# Altium integrated library Microchip Thermal Management.IntLib: 361 symbols (part 6 of 9)
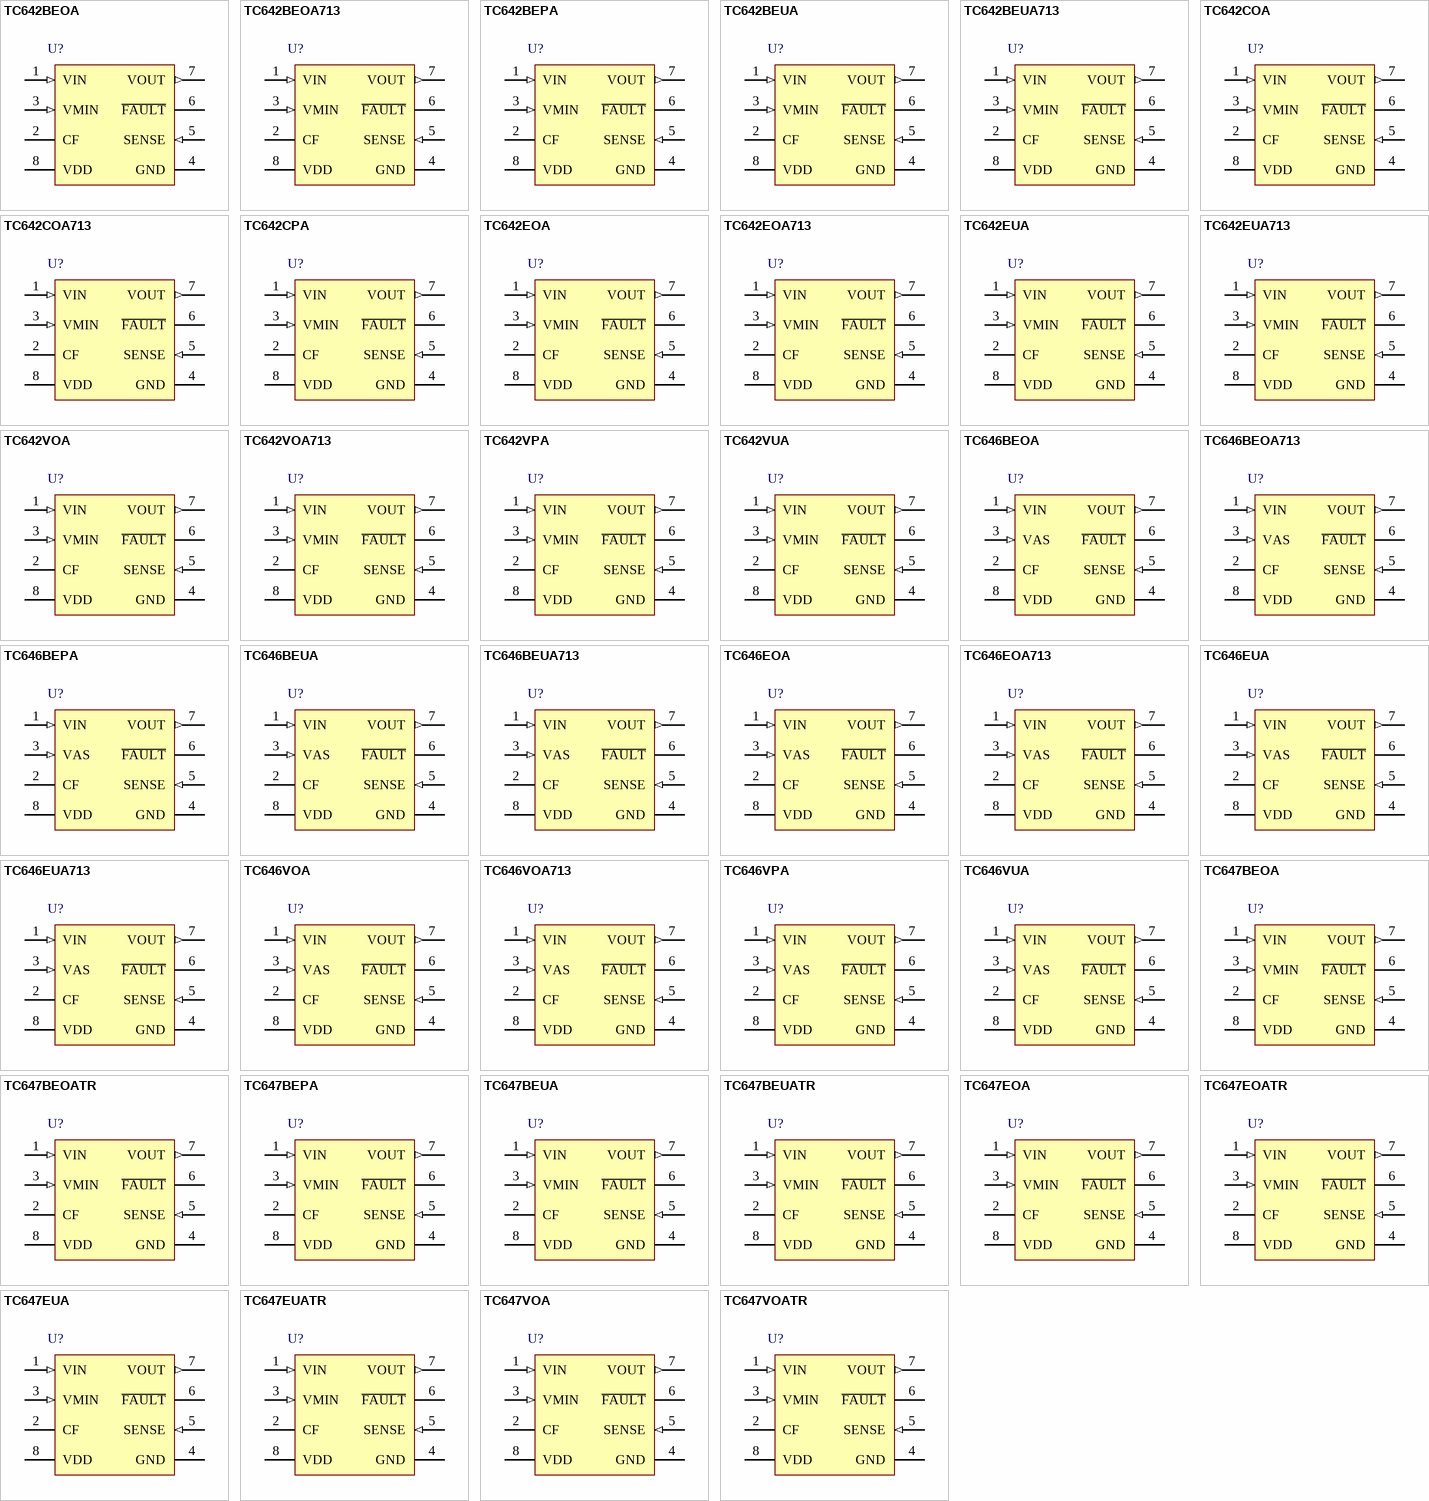
[diagram p14: symbols TC642BEOA to TC647VOATR]

## TC642EUA713
designator U?
PWM Fan Speed Controller with FanSense Technology, 8-Pin MSOP, Industrial Temperature, Tape and Reel; Manufacturer: Microchip; PartNumber: TC642EUA713; DatasheetVersion: revC, Oct-2002; PackageVersion: revBB, Aug-2009; PackageReference: MSOP-UA8; PackageDescription: 8-Lead Plastic Micro Small Outline Package (UA) [MSOP]; Supplier 1: Digi-Key; Supplier Part Number 1: TC642EUA713-ND; Mounting Technology: Surface Mount; Code_JEDEC: MO-187-AA; ComponentLink1Description: Manufacturer URL; ComponentLink1URL: http://www.microchip.com/; ComponentLink2Description: Datasheet; ComponentLink2URL: http://ww1.microchip.com/downloads/en/DeviceDoc/21444c.pdf; ComponentLink3Description: Package Specification; ComponentLink3URL: http://www.microchip.com/stellent/groups/techpub_sg/documents/packagingspec/en012702.pdf
footprint MSOP-UA8_N (TSOP, 8-Leads, Body 3x3mm, Pitch 0.65mm, IPC Medium Density)
footprint MSOP-UA8_L (TSOP, 8-Leads, Body 3x3mm, Pitch 0.65mm, IPC High Density)
footprint MSOP-UA8_M (TSOP, 8-Leads, Body 3x3mm, Pitch 0.65mm, IPC Low Density)
pins: 1 VIN (in), 2 CF, 3 VMIN (in), 4 GND (power), 5 SENSE (in), 6 ~{FAULT} (oc), 7 VOUT (out), 8 VDD (power)

## TC642VOA
designator U?
PWM Fan Speed Controller with FanSense Technology, 8-Pin SOIC; Manufacturer: Microchip; PartNumber: TC642VOA; DatasheetVersion: revC, Oct-2002; PackageVersion: revBB, Aug-2009; PackageReference: SOIC-OA8; PackageDescription: 8-Lead Plastic Small Outline (OA) - Narrow, 3.90mm Body [SOIC]; Supplier 1: Digi-Key; Supplier Part Number 1: TC642VOA-ND; Mounting Technology: Surface Mount; Code_IPC: SOIC127P600-8; ComponentLink1Description: Manufacturer URL; ComponentLink1URL: http://www.microchip.com/; ComponentLink2Description: Datasheet; ComponentLink2URL: http://ww1.microchip.com/downloads/en/DeviceDoc/21444c.pdf; ComponentLink3Description: Package Specification; ComponentLink3URL: http://www.microchip.com/stellent/groups/techpub_sg/documents/packagingspec/en012702.pdf
footprint SOIC-OA8_N (SOIC, 8-Leads, Body 4.9x3.9mm, Pitch 1.27mm, IPC Medium Density)
footprint SOIC-OA8_L (SOIC, 8-Leads, Body 4.9x3.9mm, Pitch 1.27mm, IPC High Density)
footprint SOIC-OA8_M (SOIC, 8-Leads, Body 4.9x3.9mm, Pitch 1.27mm, IPC Low Density)
pins: 1 VIN (in), 2 CF, 3 VMIN (in), 4 GND (power), 5 SENSE (in), 6 ~{FAULT} (oc), 7 VOUT (out), 8 VDD (power)

## TC642VOA713
designator U?
PWM Fan Speed Controller with FanSense Technology, 8-Pin SOIC, Commercial Temperature, Tape and Reel; Manufacturer: Microchip; PartNumber: TC642VOA713; DatasheetVersion: revC, Oct-2002; PackageVersion: revBB, Aug-2009; PackageReference: SOIC-OA8; PackageDescription: 8-Lead Plastic Small Outline (OA) - Narrow, 3.90mm Body [SOIC]; Supplier 1: Digi-Key; Supplier Part Number 1: TC642VOA713-ND; Mounting Technology: Surface Mount; Code_IPC: SOIC127P600-8; ComponentLink1Description: Manufacturer URL; ComponentLink1URL: http://www.microchip.com/; ComponentLink2Description: Datasheet; ComponentLink2URL: http://ww1.microchip.com/downloads/en/DeviceDoc/21444c.pdf; ComponentLink3Description: Package Specification; ComponentLink3URL: http://www.microchip.com/stellent/groups/techpub_sg/documents/packagingspec/en012702.pdf
footprint SOIC-OA8_N (SOIC, 8-Leads, Body 4.9x3.9mm, Pitch 1.27mm, IPC Medium Density)
footprint SOIC-OA8_L (SOIC, 8-Leads, Body 4.9x3.9mm, Pitch 1.27mm, IPC High Density)
footprint SOIC-OA8_M (SOIC, 8-Leads, Body 4.9x3.9mm, Pitch 1.27mm, IPC Low Density)
pins: 1 VIN (in), 2 CF, 3 VMIN (in), 4 GND (power), 5 SENSE (in), 6 ~{FAULT} (oc), 7 VOUT (out), 8 VDD (power)

## TC642VPA
designator U?
PWM Fan Speed Controller with FanSense Technology, 8-Pin PDIP; Manufacturer: Microchip; PartNumber: TC642VPA; DatasheetVersion: revC, Oct-2002; PackageVersion: revBB, Aug-2009; PackageReference: PDIP300-PA8; PackageDescription: 8-Lead Plastic Dual In-Line (PA) - 300 mil Body [PDIP]; Supplier 1: Digi-Key; Supplier Part Number 1: TC642VPA-ND; Mounting Technology: Through Hole; Code_JEDEC: MS-001-BA; ComponentLink1Description: Manufacturer URL; ComponentLink1URL: http://www.microchip.com/; ComponentLink2Description: Datasheet; ComponentLink2URL: http://ww1.microchip.com/downloads/en/DeviceDoc/21444c.pdf; ComponentLink3Description: Package Specification; ComponentLink3URL: http://www.microchip.com/stellent/groups/techpub_sg/documents/packagingspec/en012702.pdf
footprint PDIP300-PA8 (DIP, 8-Leads, Row Spacing 7.62mm, Pitch 2.54mm, Body 9.5x6.6mm)
pins: 1 VIN (in), 2 CF, 3 VMIN (in), 4 GND (power), 5 SENSE (in), 6 ~{FAULT} (oc), 7 VOUT (out), 8 VDD (power)

## TC642VUA
designator U?
PWM Fan Speed Controller with FanSense Technology, 8-Pin MSOP; Manufacturer: Microchip; PartNumber: TC642VUA; DatasheetVersion: revC, Oct-2002; PackageVersion: revBB, Aug-2009; PackageReference: MSOP-UA8; PackageDescription: 8-Lead Plastic Micro Small Outline Package (UA) [MSOP]; Supplier 1: Digi-Key; Supplier Part Number 1: TC642VUA-ND; Mounting Technology: Surface Mount; Code_JEDEC: MO-187-AA; ComponentLink1Description: Manufacturer URL; ComponentLink1URL: http://www.microchip.com/; ComponentLink2Description: Datasheet; ComponentLink2URL: http://ww1.microchip.com/downloads/en/DeviceDoc/21444c.pdf; ComponentLink3Description: Package Specification; ComponentLink3URL: http://www.microchip.com/stellent/groups/techpub_sg/documents/packagingspec/en012702.pdf
footprint MSOP-UA8_N (TSOP, 8-Leads, Body 3x3mm, Pitch 0.65mm, IPC Medium Density)
footprint MSOP-UA8_L (TSOP, 8-Leads, Body 3x3mm, Pitch 0.65mm, IPC High Density)
footprint MSOP-UA8_M (TSOP, 8-Leads, Body 3x3mm, Pitch 0.65mm, IPC Low Density)
pins: 1 VIN (in), 2 CF, 3 VMIN (in), 4 GND (power), 5 SENSE (in), 6 ~{FAULT} (oc), 7 VOUT (out), 8 VDD (power)

## TC646BEOA
designator U?
PWM Fan Speed Controller with Auto-Shutdown, Fan Restart and FanSense Technology for Fault Detection, 8-Pin SOIC, Industrial Temperature; Manufacturer: Microchip; PartNumber: TC646BEOA; DatasheetVersion: revB, May-2003; PackageVersion: revBB, Aug-2009; PackageReference: SOIC-OA8; PackageDescription: 8-Lead Plastic Small Outline (OA) - Narrow, 3.90mm Body [SOIC]; Supplier 1: Digi-Key; Supplier Part Number 1: TC646BEOA-ND; Mounting Technology: Surface Mount; Code_IPC: SOIC127P600-8; ComponentLink1Description: Manufacturer URL; ComponentLink1URL: http://www.microchip.com/; ComponentLink2Description: Datasheet; ComponentLink2URL: http://ww1.microchip.com/downloads/en/DeviceDoc/21755b.pdf; ComponentLink3Description: Package Specification; ComponentLink3URL: http://www.microchip.com/stellent/groups/techpub_sg/documents/packagingspec/en012702.pdf
footprint SOIC-OA8_N (SOIC, 8-Leads, Body 4.9x3.9mm, Pitch 1.27mm, IPC Medium Density)
footprint SOIC-OA8_L (SOIC, 8-Leads, Body 4.9x3.9mm, Pitch 1.27mm, IPC High Density)
footprint SOIC-OA8_M (SOIC, 8-Leads, Body 4.9x3.9mm, Pitch 1.27mm, IPC Low Density)
pins: 1 VIN (in), 2 CF, 3 VAS (in), 4 GND (power), 5 SENSE (in), 6 ~{FAULT} (oc), 7 VOUT (out), 8 VDD (power)

## TC646BEOA713
designator U?
PWM Fan Speed Controller with Auto-Shutdown, Fan Restart and FanSense Technology for Fault Detection, 8-Pin SOIC, Industrial Temperature, Tape and Reel; Manufacturer: Microchip; PartNumber: TC646BEOA713; DatasheetVersion: revB, May-2003; PackageVersion: revBB, Aug-2009; PackageReference: SOIC-OA8; PackageDescription: 8-Lead Plastic Small Outline (OA) - Narrow, 3.90mm Body [SOIC]; Supplier 1: Digi-Key; Supplier Part Number 1: TC646BEOA713-ND; Mounting Technology: Surface Mount; Code_IPC: SOIC127P600-8; ComponentLink1Description: Manufacturer URL; ComponentLink1URL: http://www.microchip.com/; ComponentLink2Description: Datasheet; ComponentLink2URL: http://ww1.microchip.com/downloads/en/DeviceDoc/21755b.pdf; ComponentLink3Description: Package Specification; ComponentLink3URL: http://www.microchip.com/stellent/groups/techpub_sg/documents/packagingspec/en012702.pdf
footprint SOIC-OA8_N (SOIC, 8-Leads, Body 4.9x3.9mm, Pitch 1.27mm, IPC Medium Density)
footprint SOIC-OA8_L (SOIC, 8-Leads, Body 4.9x3.9mm, Pitch 1.27mm, IPC High Density)
footprint SOIC-OA8_M (SOIC, 8-Leads, Body 4.9x3.9mm, Pitch 1.27mm, IPC Low Density)
pins: 1 VIN (in), 2 CF, 3 VAS (in), 4 GND (power), 5 SENSE (in), 6 ~{FAULT} (oc), 7 VOUT (out), 8 VDD (power)

## TC646BEPA
designator U?
PWM Fan Speed Controller with Auto-Shutdown, Fan Restart and FanSense Technology for Fault Detection, 8-Pin PDIP, Industrial Temperature; Manufacturer: Microchip; PartNumber: TC646BEPA; DatasheetVersion: revB, May-2003; PackageVersion: revBB, Aug-2009; PackageReference: PDIP300-PA8; PackageDescription: 8-Lead Plastic Dual In-Line (PA) - 300 mil Body [PDIP]; Supplier 1: Digi-Key; Supplier Part Number 1: TC646BEPA-ND; Mounting Technology: Through Hole; Code_JEDEC: MS-001-BA; ComponentLink1Description: Manufacturer URL; ComponentLink1URL: http://www.microchip.com/; ComponentLink2Description: Datasheet; ComponentLink2URL: http://ww1.microchip.com/downloads/en/DeviceDoc/21755b.pdf; ComponentLink3Description: Package Specification; ComponentLink3URL: http://www.microchip.com/stellent/groups/techpub_sg/documents/packagingspec/en012702.pdf
footprint PDIP300-PA8 (DIP, 8-Leads, Row Spacing 7.62mm, Pitch 2.54mm, Body 9.5x6.6mm)
pins: 1 VIN (in), 2 CF, 3 VAS (in), 4 GND (power), 5 SENSE (in), 6 ~{FAULT} (oc), 7 VOUT (out), 8 VDD (power)

## TC646BEUA
designator U?
PWM Fan Speed Controller with Auto-Shutdown, Fan Restart and FanSense Technology for Fault Detection, 8-Pin MSOP, Industrial Temperature; Manufacturer: Microchip; PartNumber: TC646BEUA; DatasheetVersion: revB, May-2003; PackageVersion: revBB, Aug-2009; PackageReference: MSOP-UA8; PackageDescription: 8-Lead Plastic Micro Small Outline Package (UA) [MSOP]; Supplier 1: Digi-Key; Supplier Part Number 1: TC646BEUA-ND; Mounting Technology: Surface Mount; Code_JEDEC: MO-187-AA; ComponentLink1Description: Manufacturer URL; ComponentLink1URL: http://www.microchip.com/; ComponentLink2Description: Datasheet; ComponentLink2URL: http://ww1.microchip.com/downloads/en/DeviceDoc/21755b.pdf; ComponentLink3Description: Package Specification; ComponentLink3URL: http://www.microchip.com/stellent/groups/techpub_sg/documents/packagingspec/en012702.pdf
footprint MSOP-UA8_N (TSOP, 8-Leads, Body 3x3mm, Pitch 0.65mm, IPC Medium Density)
footprint MSOP-UA8_L (TSOP, 8-Leads, Body 3x3mm, Pitch 0.65mm, IPC High Density)
footprint MSOP-UA8_M (TSOP, 8-Leads, Body 3x3mm, Pitch 0.65mm, IPC Low Density)
pins: 1 VIN (in), 2 CF, 3 VAS (in), 4 GND (power), 5 SENSE (in), 6 ~{FAULT} (oc), 7 VOUT (out), 8 VDD (power)

## TC646BEUA713
designator U?
PWM Fan Speed Controller with Auto-Shutdown, Fan Restart and FanSense Technology for Fault Detection, 8-Pin MSOP, Industrial Temperature, Tape and Reel; Manufacturer: Microchip; PartNumber: TC646BEUA713; DatasheetVersion: revB, May-2003; PackageVersion: revBB, Aug-2009; PackageReference: MSOP-UA8; PackageDescription: 8-Lead Plastic Micro Small Outline Package (UA) [MSOP]; Supplier 1: Digi-Key; Supplier Part Number 1: TC646BEUA713-ND; Mounting Technology: Surface Mount; Code_JEDEC: MO-187-AA; ComponentLink1Description: Manufacturer URL; ComponentLink1URL: http://www.microchip.com/; ComponentLink2Description: Datasheet; ComponentLink2URL: http://ww1.microchip.com/downloads/en/DeviceDoc/21755b.pdf; ComponentLink3Description: Package Specification; ComponentLink3URL: http://www.microchip.com/stellent/groups/techpub_sg/documents/packagingspec/en012702.pdf
footprint MSOP-UA8_N (TSOP, 8-Leads, Body 3x3mm, Pitch 0.65mm, IPC Medium Density)
footprint MSOP-UA8_L (TSOP, 8-Leads, Body 3x3mm, Pitch 0.65mm, IPC High Density)
footprint MSOP-UA8_M (TSOP, 8-Leads, Body 3x3mm, Pitch 0.65mm, IPC Low Density)
pins: 1 VIN (in), 2 CF, 3 VAS (in), 4 GND (power), 5 SENSE (in), 6 ~{FAULT} (oc), 7 VOUT (out), 8 VDD (power)

## TC646EOA
designator U?
PWM Fan Speed Controller with Auto-Shutdown and FanSense Technology, 8-Pin SOIC, Industrial Temperature; Manufacturer: Microchip; PartNumber: TC646EOA; DatasheetVersion: revC, Oct-2002; PackageVersion: revBB, Aug-2009; PackageReference: SOIC-OA8; PackageDescription: 8-Lead Plastic Small Outline (OA) - Narrow, 3.90mm Body [SOIC]; Supplier 1: Digi-Key; Supplier Part Number 1: TC646EOA-ND; Mounting Technology: Surface Mount; Code_IPC: SOIC127P600-8; ComponentLink1Description: Manufacturer URL; ComponentLink1URL: http://www.microchip.com/; ComponentLink2Description: Datasheet; ComponentLink2URL: http://ww1.microchip.com/downloads/en/DeviceDoc/21446c.pdf; ComponentLink3Description: Package Specification; ComponentLink3URL: http://www.microchip.com/stellent/groups/techpub_sg/documents/packagingspec/en012702.pdf
footprint SOIC-OA8_N (SOIC, 8-Leads, Body 4.9x3.9mm, Pitch 1.27mm, IPC Medium Density)
footprint SOIC-OA8_L (SOIC, 8-Leads, Body 4.9x3.9mm, Pitch 1.27mm, IPC High Density)
footprint SOIC-OA8_M (SOIC, 8-Leads, Body 4.9x3.9mm, Pitch 1.27mm, IPC Low Density)
pins: 1 VIN (in), 2 CF, 3 VAS (in), 4 GND (power), 5 SENSE (in), 6 ~{FAULT} (oc), 7 VOUT (out), 8 VDD (power)

## TC646EOA713
designator U?
PWM Fan Speed Controller with Auto-Shutdown and FanSense Technology, 8-Pin SOIC, Industrial Temperature, Tape and Reel; Manufacturer: Microchip; PartNumber: TC646EOA713; DatasheetVersion: revC, Oct-2002; PackageVersion: revBB, Aug-2009; PackageReference: SOIC-OA8; PackageDescription: 8-Lead Plastic Small Outline (OA) - Narrow, 3.90mm Body [SOIC]; Supplier 1: Digi-Key; Supplier Part Number 1: TC646EOA713-ND; Mounting Technology: Surface Mount; Code_IPC: SOIC127P600-8; ComponentLink1Description: Manufacturer URL; ComponentLink1URL: http://www.microchip.com/; ComponentLink2Description: Datasheet; ComponentLink2URL: http://ww1.microchip.com/downloads/en/DeviceDoc/21446c.pdf; ComponentLink3Description: Package Specification; ComponentLink3URL: http://www.microchip.com/stellent/groups/techpub_sg/documents/packagingspec/en012702.pdf
footprint SOIC-OA8_N (SOIC, 8-Leads, Body 4.9x3.9mm, Pitch 1.27mm, IPC Medium Density)
footprint SOIC-OA8_L (SOIC, 8-Leads, Body 4.9x3.9mm, Pitch 1.27mm, IPC High Density)
footprint SOIC-OA8_M (SOIC, 8-Leads, Body 4.9x3.9mm, Pitch 1.27mm, IPC Low Density)
pins: 1 VIN (in), 2 CF, 3 VAS (in), 4 GND (power), 5 SENSE (in), 6 ~{FAULT} (oc), 7 VOUT (out), 8 VDD (power)

## TC646EUA
designator U?
PWM Fan Speed Controller with Auto-Shutdown and FanSense Technology, 8-Pin MSOP, Industrial Temperature; Manufacturer: Microchip; PartNumber: TC646EUA; DatasheetVersion: revC, Oct-2002; PackageVersion: revBB, Aug-2009; PackageReference: MSOP-UA8; PackageDescription: 8-Lead Plastic Micro Small Outline Package (UA) [MSOP]; Supplier 1: Digi-Key; Supplier Part Number 1: TC646EUA-ND; Mounting Technology: Surface Mount; Code_JEDEC: MO-187-AA; ComponentLink1Description: Manufacturer URL; ComponentLink1URL: http://www.microchip.com/; ComponentLink2Description: Datasheet; ComponentLink2URL: http://ww1.microchip.com/downloads/en/DeviceDoc/21446c.pdf; ComponentLink3Description: Package Specification; ComponentLink3URL: http://www.microchip.com/stellent/groups/techpub_sg/documents/packagingspec/en012702.pdf
footprint MSOP-UA8_N (TSOP, 8-Leads, Body 3x3mm, Pitch 0.65mm, IPC Medium Density)
footprint MSOP-UA8_L (TSOP, 8-Leads, Body 3x3mm, Pitch 0.65mm, IPC High Density)
footprint MSOP-UA8_M (TSOP, 8-Leads, Body 3x3mm, Pitch 0.65mm, IPC Low Density)
pins: 1 VIN (in), 2 CF, 3 VAS (in), 4 GND (power), 5 SENSE (in), 6 ~{FAULT} (oc), 7 VOUT (out), 8 VDD (power)

## TC646EUA713
designator U?
PWM Fan Speed Controller with Auto-Shutdown and FanSense Technology, 8-Pin MSOP, Industrial Temperature, Tape and Reel; Manufacturer: Microchip; PartNumber: TC646EUA713; DatasheetVersion: revC, Oct-2002; PackageVersion: revBB, Aug-2009; PackageReference: MSOP-UA8; PackageDescription: 8-Lead Plastic Micro Small Outline Package (UA) [MSOP]; Supplier 1: Digi-Key; Supplier Part Number 1: TC646EUA713-ND; Mounting Technology: Surface Mount; Code_JEDEC: MO-187-AA; ComponentLink1Description: Manufacturer URL; ComponentLink1URL: http://www.microchip.com/; ComponentLink2Description: Datasheet; ComponentLink2URL: http://ww1.microchip.com/downloads/en/DeviceDoc/21446c.pdf; ComponentLink3Description: Package Specification; ComponentLink3URL: http://www.microchip.com/stellent/groups/techpub_sg/documents/packagingspec/en012702.pdf
footprint MSOP-UA8_N (TSOP, 8-Leads, Body 3x3mm, Pitch 0.65mm, IPC Medium Density)
footprint MSOP-UA8_L (TSOP, 8-Leads, Body 3x3mm, Pitch 0.65mm, IPC High Density)
footprint MSOP-UA8_M (TSOP, 8-Leads, Body 3x3mm, Pitch 0.65mm, IPC Low Density)
pins: 1 VIN (in), 2 CF, 3 VAS (in), 4 GND (power), 5 SENSE (in), 6 ~{FAULT} (oc), 7 VOUT (out), 8 VDD (power)

## TC646VOA
designator U?
PWM Fan Speed Controller with Auto-Shutdown and FanSense Technology, 8-Pin SOIC; Manufacturer: Microchip; PartNumber: TC646VOA; DatasheetVersion: revC, Oct-2002; PackageVersion: revBB, Aug-2009; PackageReference: SOIC-OA8; PackageDescription: 8-Lead Plastic Small Outline (OA) - Narrow, 3.90mm Body [SOIC]; Supplier 1: Digi-Key; Supplier Part Number 1: TC646VOA-ND; Mounting Technology: Surface Mount; Code_IPC: SOIC127P600-8; ComponentLink1Description: Manufacturer URL; ComponentLink1URL: http://www.microchip.com/; ComponentLink2Description: Datasheet; ComponentLink2URL: http://ww1.microchip.com/downloads/en/DeviceDoc/21446c.pdf; ComponentLink3Description: Package Specification; ComponentLink3URL: http://www.microchip.com/stellent/groups/techpub_sg/documents/packagingspec/en012702.pdf
footprint SOIC-OA8_N (SOIC, 8-Leads, Body 4.9x3.9mm, Pitch 1.27mm, IPC Medium Density)
footprint SOIC-OA8_L (SOIC, 8-Leads, Body 4.9x3.9mm, Pitch 1.27mm, IPC High Density)
footprint SOIC-OA8_M (SOIC, 8-Leads, Body 4.9x3.9mm, Pitch 1.27mm, IPC Low Density)
pins: 1 VIN (in), 2 CF, 3 VAS (in), 4 GND (power), 5 SENSE (in), 6 ~{FAULT} (oc), 7 VOUT (out), 8 VDD (power)

## TC646VOA713
designator U?
PWM Fan Speed Controller with Auto-Shutdown and FanSense Technology, 8-Pin SOIC, Commercial Temperature, Tape and Reel; Manufacturer: Microchip; PartNumber: TC646VOA713; DatasheetVersion: revC, Oct-2002; PackageVersion: revBB, Aug-2009; PackageReference: SOIC-OA8; PackageDescription: 8-Lead Plastic Small Outline (OA) - Narrow, 3.90mm Body [SOIC]; Supplier 1: Digi-Key; Supplier Part Number 1: TC646VOA713-ND; Mounting Technology: Surface Mount; Code_IPC: SOIC127P600-8; ComponentLink1Description: Manufacturer URL; ComponentLink1URL: http://www.microchip.com/; ComponentLink2Description: Datasheet; ComponentLink2URL: http://ww1.microchip.com/downloads/en/DeviceDoc/21446c.pdf; ComponentLink3Description: Package Specification; ComponentLink3URL: http://www.microchip.com/stellent/groups/techpub_sg/documents/packagingspec/en012702.pdf
footprint SOIC-OA8_N (SOIC, 8-Leads, Body 4.9x3.9mm, Pitch 1.27mm, IPC Medium Density)
footprint SOIC-OA8_L (SOIC, 8-Leads, Body 4.9x3.9mm, Pitch 1.27mm, IPC High Density)
footprint SOIC-OA8_M (SOIC, 8-Leads, Body 4.9x3.9mm, Pitch 1.27mm, IPC Low Density)
pins: 1 VIN (in), 2 CF, 3 VAS (in), 4 GND (power), 5 SENSE (in), 6 ~{FAULT} (oc), 7 VOUT (out), 8 VDD (power)

## TC646VPA
designator U?
PWM Fan Speed Controller with Auto-Shutdown and FanSense Technology, 8-Pin PDIP; Manufacturer: Microchip; PartNumber: TC646VPA; DatasheetVersion: revC, Oct-2002; PackageVersion: revBB, Aug-2009; PackageReference: PDIP300-PA8; PackageDescription: 8-Lead Plastic Dual In-Line (PA) - 300 mil Body [PDIP]; Supplier 1: Digi-Key; Supplier Part Number 1: TC646VPA-ND; Mounting Technology: Through Hole; Code_JEDEC: MS-001-BA; ComponentLink1Description: Manufacturer URL; ComponentLink1URL: http://www.microchip.com/; ComponentLink2Description: Datasheet; ComponentLink2URL: http://ww1.microchip.com/downloads/en/DeviceDoc/21446c.pdf; ComponentLink3Description: Package Specification; ComponentLink3URL: http://www.microchip.com/stellent/groups/techpub_sg/documents/packagingspec/en012702.pdf
footprint PDIP300-PA8 (DIP, 8-Leads, Row Spacing 7.62mm, Pitch 2.54mm, Body 9.5x6.6mm)
pins: 1 VIN (in), 2 CF, 3 VAS (in), 4 GND (power), 5 SENSE (in), 6 ~{FAULT} (oc), 7 VOUT (out), 8 VDD (power)

## TC646VUA
designator U?
PWM Fan Speed Controller with Auto-Shutdown and FanSense Technology, 8-Pin MSOP; Manufacturer: Microchip; PartNumber: TC646VUA; DatasheetVersion: revC, Oct-2002; PackageVersion: revBB, Aug-2009; PackageReference: MSOP-UA8; PackageDescription: 8-Lead Plastic Micro Small Outline Package (UA) [MSOP]; Supplier 1: Digi-Key; Supplier Part Number 1: TC646VUA-ND; Mounting Technology: Surface Mount; Code_JEDEC: MO-187-AA; ComponentLink1Description: Manufacturer URL; ComponentLink1URL: http://www.microchip.com/; ComponentLink2Description: Datasheet; ComponentLink2URL: http://ww1.microchip.com/downloads/en/DeviceDoc/21446c.pdf; ComponentLink3Description: Package Specification; ComponentLink3URL: http://www.microchip.com/stellent/groups/techpub_sg/documents/packagingspec/en012702.pdf
footprint MSOP-UA8_N (TSOP, 8-Leads, Body 3x3mm, Pitch 0.65mm, IPC Medium Density)
footprint MSOP-UA8_L (TSOP, 8-Leads, Body 3x3mm, Pitch 0.65mm, IPC High Density)
footprint MSOP-UA8_M (TSOP, 8-Leads, Body 3x3mm, Pitch 0.65mm, IPC Low Density)
pins: 1 VIN (in), 2 CF, 3 VAS (in), 4 GND (power), 5 SENSE (in), 6 ~{FAULT} (oc), 7 VOUT (out), 8 VDD (power)

## TC647BEOA
designator U?
PWM Fan Speed Controller with Minimum Fan Speed, Fan Restart and FanSense Technology for Fault Detection, 8-Pin SOIC, Industrial Temperature; Manufacturer: Microchip; PartNumber: TC647BEOA; DatasheetVersion: revB, May-2003; PackageVersion: revBB, Aug-2009; PackageReference: SOIC-OA8; PackageDescription: 8-Lead Plastic Small Outline (OA) - Narrow, 3.90mm Body [SOIC]; Supplier 1: Digi-Key; Supplier Part Number 1: TC647BEOA-ND; Mounting Technology: Surface Mount; Code_IPC: SOIC127P600-8; ComponentLink1Description: Manufacturer URL; ComponentLink1URL: http://www.microchip.com/; ComponentLink2Description: Datasheet; ComponentLink2URL: http://ww1.microchip.com/downloads/en/DeviceDoc/21756b.pdf; ComponentLink3Description: Package Specification; ComponentLink3URL: http://www.microchip.com/stellent/groups/techpub_sg/documents/packagingspec/en012702.pdf
footprint SOIC-OA8_N (SOIC, 8-Leads, Body 4.9x3.9mm, Pitch 1.27mm, IPC Medium Density)
footprint SOIC-OA8_L (SOIC, 8-Leads, Body 4.9x3.9mm, Pitch 1.27mm, IPC High Density)
footprint SOIC-OA8_M (SOIC, 8-Leads, Body 4.9x3.9mm, Pitch 1.27mm, IPC Low Density)
pins: 1 VIN (in), 2 CF, 3 VMIN (in), 4 GND (power), 5 SENSE (in), 6 ~{FAULT} (oc), 7 VOUT (out), 8 VDD (power)

## TC647BEOATR
designator U?
PWM Fan Speed Controller with Minimum Fan Speed, Fan Restart and FanSense Technology for Fault Detection, 8-Pin SOIC, Industrial Temperature, Tape and Reel; Manufacturer: Microchip; PartNumber: TC647BEOATR; DatasheetVersion: revB, May-2003; PackageVersion: revBB, Aug-2009; PackageReference: SOIC-OA8; PackageDescription: 8-Lead Plastic Small Outline (OA) - Narrow, 3.90mm Body [SOIC]; Supplier 1: Digi-Key; Supplier Part Number 1: TC647BEOATR-ND; Mounting Technology: Surface Mount; Code_IPC: SOIC127P600-8; ComponentLink1Description: Manufacturer URL; ComponentLink1URL: http://www.microchip.com/; ComponentLink2Description: Datasheet; ComponentLink2URL: http://ww1.microchip.com/downloads/en/DeviceDoc/21756b.pdf; ComponentLink3Description: Package Specification; ComponentLink3URL: http://www.microchip.com/stellent/groups/techpub_sg/documents/packagingspec/en012702.pdf
footprint SOIC-OA8_N (SOIC, 8-Leads, Body 4.9x3.9mm, Pitch 1.27mm, IPC Medium Density)
footprint SOIC-OA8_L (SOIC, 8-Leads, Body 4.9x3.9mm, Pitch 1.27mm, IPC High Density)
footprint SOIC-OA8_M (SOIC, 8-Leads, Body 4.9x3.9mm, Pitch 1.27mm, IPC Low Density)
pins: 1 VIN (in), 2 CF, 3 VMIN (in), 4 GND (power), 5 SENSE (in), 6 ~{FAULT} (oc), 7 VOUT (out), 8 VDD (power)

## TC647BEPA
designator U?
PWM Fan Speed Controller with Minimum Fan Speed, Fan Restart and FanSense Technology for Fault Detection, 8-Pin PDIP, Industrial Temperature; Manufacturer: Microchip; PartNumber: TC647BEPA; DatasheetVersion: revB, May-2003; PackageVersion: revBB, Aug-2009; PackageReference: PDIP300-PA8; PackageDescription: 8-Lead Plastic Dual In-Line (PA) - 300 mil Body [PDIP]; Supplier 1: Digi-Key; Supplier Part Number 1: TC647BEPA-ND; Mounting Technology: Through Hole; Code_JEDEC: MS-001-BA; ComponentLink1Description: Manufacturer URL; ComponentLink1URL: http://www.microchip.com/; ComponentLink2Description: Datasheet; ComponentLink2URL: http://ww1.microchip.com/downloads/en/DeviceDoc/21756b.pdf; ComponentLink3Description: Package Specification; ComponentLink3URL: http://www.microchip.com/stellent/groups/techpub_sg/documents/packagingspec/en012702.pdf
footprint PDIP300-PA8 (DIP, 8-Leads, Row Spacing 7.62mm, Pitch 2.54mm, Body 9.5x6.6mm)
pins: 1 VIN (in), 2 CF, 3 VMIN (in), 4 GND (power), 5 SENSE (in), 6 ~{FAULT} (oc), 7 VOUT (out), 8 VDD (power)

## TC647BEUA
designator U?
PWM Fan Speed Controller with Minimum Fan Speed, Fan Restart and FanSense Technology for Fault Detection, 8-Pin MSOP, Industrial Temperature; Manufacturer: Microchip; PartNumber: TC647BEUA; DatasheetVersion: revB, May-2003; PackageVersion: revBB, Aug-2009; PackageReference: MSOP-UA8; PackageDescription: 8-Lead Plastic Micro Small Outline Package (UA) [MSOP]; Supplier 1: Digi-Key; Supplier Part Number 1: TC647BEUA-ND; Mounting Technology: Surface Mount; Code_JEDEC: MO-187-AA; ComponentLink1Description: Manufacturer URL; ComponentLink1URL: http://www.microchip.com/; ComponentLink2Description: Datasheet; ComponentLink2URL: http://ww1.microchip.com/downloads/en/DeviceDoc/21756b.pdf; ComponentLink3Description: Package Specification; ComponentLink3URL: http://www.microchip.com/stellent/groups/techpub_sg/documents/packagingspec/en012702.pdf
footprint MSOP-UA8_N (TSOP, 8-Leads, Body 3x3mm, Pitch 0.65mm, IPC Medium Density)
footprint MSOP-UA8_L (TSOP, 8-Leads, Body 3x3mm, Pitch 0.65mm, IPC High Density)
footprint MSOP-UA8_M (TSOP, 8-Leads, Body 3x3mm, Pitch 0.65mm, IPC Low Density)
pins: 1 VIN (in), 2 CF, 3 VMIN (in), 4 GND (power), 5 SENSE (in), 6 ~{FAULT} (oc), 7 VOUT (out), 8 VDD (power)

## TC647BEUATR
designator U?
PWM Fan Speed Controller with Minimum Fan Speed, Fan Restart and FanSense Technology for Fault Detection, 8-Pin MSOP, Industrial Temperature, Tape and Reel; Manufacturer: Microchip; PartNumber: TC647BEUATR; DatasheetVersion: revB, May-2003; PackageVersion: revBB, Aug-2009; PackageReference: MSOP-UA8; PackageDescription: 8-Lead Plastic Micro Small Outline Package (UA) [MSOP]; Supplier 1: Digi-Key; Supplier Part Number 1: TC647BEUATR-ND; Mounting Technology: Surface Mount; Code_JEDEC: MO-187-AA; ComponentLink1Description: Manufacturer URL; ComponentLink1URL: http://www.microchip.com/; ComponentLink2Description: Datasheet; ComponentLink2URL: http://ww1.microchip.com/downloads/en/DeviceDoc/21756b.pdf; ComponentLink3Description: Package Specification; ComponentLink3URL: http://www.microchip.com/stellent/groups/techpub_sg/documents/packagingspec/en012702.pdf
footprint MSOP-UA8_N (TSOP, 8-Leads, Body 3x3mm, Pitch 0.65mm, IPC Medium Density)
footprint MSOP-UA8_L (TSOP, 8-Leads, Body 3x3mm, Pitch 0.65mm, IPC High Density)
footprint MSOP-UA8_M (TSOP, 8-Leads, Body 3x3mm, Pitch 0.65mm, IPC Low Density)
pins: 1 VIN (in), 2 CF, 3 VMIN (in), 4 GND (power), 5 SENSE (in), 6 ~{FAULT} (oc), 7 VOUT (out), 8 VDD (power)

## TC647EOA
designator U?
PWM Fan Speed Controller with FanSense Technology, 8-Pin SOIC, Industrial Temperature; Manufacturer: Microchip; PartNumber: TC647EOA; DatasheetVersion: revC, Oct-2002; PackageVersion: revBB, Aug-2009; PackageReference: SOIC-OA8; PackageDescription: 8-Lead Plastic Small Outline (OA) - Narrow, 3.90mm Body [SOIC]; Supplier 1: Digi-Key; Supplier Part Number 1: TC647EOA-ND; Mounting Technology: Surface Mount; Code_IPC: SOIC127P600-8; ComponentLink1Description: Manufacturer URL; ComponentLink1URL: http://www.microchip.com/; ComponentLink2Description: Datasheet; ComponentLink2URL: http://ww1.microchip.com/downloads/en/DeviceDoc/21447c.pdf; ComponentLink3Description: Package Specification; ComponentLink3URL: http://www.microchip.com/stellent/groups/techpub_sg/documents/packagingspec/en012702.pdf
footprint SOIC-OA8_N (SOIC, 8-Leads, Body 4.9x3.9mm, Pitch 1.27mm, IPC Medium Density)
footprint SOIC-OA8_L (SOIC, 8-Leads, Body 4.9x3.9mm, Pitch 1.27mm, IPC High Density)
footprint SOIC-OA8_M (SOIC, 8-Leads, Body 4.9x3.9mm, Pitch 1.27mm, IPC Low Density)
pins: 1 VIN (in), 2 CF, 3 VMIN (in), 4 GND (power), 5 SENSE (in), 6 ~{FAULT} (oc), 7 VOUT (out), 8 VDD (power)

## TC647EOATR
designator U?
PWM Fan Speed Controller with FanSense Technology, 8-Pin SOIC, Industrial Temperature, Tape and Reel; Manufacturer: Microchip; PartNumber: TC647EOATR; DatasheetVersion: revC, Oct-2002; PackageVersion: revBB, Aug-2009; PackageReference: SOIC-OA8; PackageDescription: 8-Lead Plastic Small Outline (OA) - Narrow, 3.90mm Body [SOIC]; Supplier 1: Digi-Key; Supplier Part Number 1: TC647EOATR-ND; Mounting Technology: Surface Mount; Code_IPC: SOIC127P600-8; ComponentLink1Description: Manufacturer URL; ComponentLink1URL: http://www.microchip.com/; ComponentLink2Description: Datasheet; ComponentLink2URL: http://ww1.microchip.com/downloads/en/DeviceDoc/21447c.pdf; ComponentLink3Description: Package Specification; ComponentLink3URL: http://www.microchip.com/stellent/groups/techpub_sg/documents/packagingspec/en012702.pdf
footprint SOIC-OA8_N (SOIC, 8-Leads, Body 4.9x3.9mm, Pitch 1.27mm, IPC Medium Density)
footprint SOIC-OA8_L (SOIC, 8-Leads, Body 4.9x3.9mm, Pitch 1.27mm, IPC High Density)
footprint SOIC-OA8_M (SOIC, 8-Leads, Body 4.9x3.9mm, Pitch 1.27mm, IPC Low Density)
pins: 1 VIN (in), 2 CF, 3 VMIN (in), 4 GND (power), 5 SENSE (in), 6 ~{FAULT} (oc), 7 VOUT (out), 8 VDD (power)

## TC647EUA
designator U?
PWM Fan Speed Controller with FanSense Technology, 8-Pin MSOP, Industrial Temperature; Manufacturer: Microchip; PartNumber: TC647EUA; DatasheetVersion: revC, Oct-2002; PackageVersion: revBB, Aug-2009; PackageReference: MSOP-UA8; PackageDescription: 8-Lead Plastic Micro Small Outline Package (UA) [MSOP]; Supplier 1: Digi-Key; Supplier Part Number 1: TC647EUA-ND; Mounting Technology: Surface Mount; Code_JEDEC: MO-187-AA; ComponentLink1Description: Manufacturer URL; ComponentLink1URL: http://www.microchip.com/; ComponentLink2Description: Datasheet; ComponentLink2URL: http://ww1.microchip.com/downloads/en/DeviceDoc/21447c.pdf; ComponentLink3Description: Package Specification; ComponentLink3URL: http://www.microchip.com/stellent/groups/techpub_sg/documents/packagingspec/en012702.pdf
footprint MSOP-UA8_N (TSOP, 8-Leads, Body 3x3mm, Pitch 0.65mm, IPC Medium Density)
footprint MSOP-UA8_L (TSOP, 8-Leads, Body 3x3mm, Pitch 0.65mm, IPC High Density)
footprint MSOP-UA8_M (TSOP, 8-Leads, Body 3x3mm, Pitch 0.65mm, IPC Low Density)
pins: 1 VIN (in), 2 CF, 3 VMIN (in), 4 GND (power), 5 SENSE (in), 6 ~{FAULT} (oc), 7 VOUT (out), 8 VDD (power)

## TC647EUATR
designator U?
PWM Fan Speed Controller with FanSense Technology, 8-Pin MSOP, Industrial Temperature, Tape and Reel; Manufacturer: Microchip; PartNumber: TC647EUATR; DatasheetVersion: revC, Oct-2002; PackageVersion: revBB, Aug-2009; PackageReference: MSOP-UA8; PackageDescription: 8-Lead Plastic Micro Small Outline Package (UA) [MSOP]; Supplier 1: Digi-Key; Supplier Part Number 1: TC647EUATR-ND; Mounting Technology: Surface Mount; Code_JEDEC: MO-187-AA; ComponentLink1Description: Manufacturer URL; ComponentLink1URL: http://www.microchip.com/; ComponentLink2Description: Datasheet; ComponentLink2URL: http://ww1.microchip.com/downloads/en/DeviceDoc/21447c.pdf; ComponentLink3Description: Package Specification; ComponentLink3URL: http://www.microchip.com/stellent/groups/techpub_sg/documents/packagingspec/en012702.pdf
footprint MSOP-UA8_N (TSOP, 8-Leads, Body 3x3mm, Pitch 0.65mm, IPC Medium Density)
footprint MSOP-UA8_L (TSOP, 8-Leads, Body 3x3mm, Pitch 0.65mm, IPC High Density)
footprint MSOP-UA8_M (TSOP, 8-Leads, Body 3x3mm, Pitch 0.65mm, IPC Low Density)
pins: 1 VIN (in), 2 CF, 3 VMIN (in), 4 GND (power), 5 SENSE (in), 6 ~{FAULT} (oc), 7 VOUT (out), 8 VDD (power)

## TC647VOA
designator U?
PWM Fan Speed Controller with FanSense Technology, 8-Pin SOIC; Manufacturer: Microchip; PartNumber: TC647VOA; DatasheetVersion: revC, Oct-2002; PackageVersion: revBB, Aug-2009; PackageReference: SOIC-OA8; PackageDescription: 8-Lead Plastic Small Outline (OA) - Narrow, 3.90mm Body [SOIC]; Supplier 1: Digi-Key; Supplier Part Number 1: TC647VOA-ND; Mounting Technology: Surface Mount; Code_IPC: SOIC127P600-8; ComponentLink1Description: Manufacturer URL; ComponentLink1URL: http://www.microchip.com/; ComponentLink2Description: Datasheet; ComponentLink2URL: http://ww1.microchip.com/downloads/en/DeviceDoc/21447c.pdf; ComponentLink3Description: Package Specification; ComponentLink3URL: http://www.microchip.com/stellent/groups/techpub_sg/documents/packagingspec/en012702.pdf
footprint SOIC-OA8_N (SOIC, 8-Leads, Body 4.9x3.9mm, Pitch 1.27mm, IPC Medium Density)
footprint SOIC-OA8_L (SOIC, 8-Leads, Body 4.9x3.9mm, Pitch 1.27mm, IPC High Density)
footprint SOIC-OA8_M (SOIC, 8-Leads, Body 4.9x3.9mm, Pitch 1.27mm, IPC Low Density)
pins: 1 VIN (in), 2 CF, 3 VMIN (in), 4 GND (power), 5 SENSE (in), 6 ~{FAULT} (oc), 7 VOUT (out), 8 VDD (power)

## TC647VOATR
designator U?
PWM Fan Speed Controller with FanSense Technology, 8-Pin SOIC, Commercial Temperature, Tape and Reel; Manufacturer: Microchip; PartNumber: TC647VOATR; DatasheetVersion: revC, Oct-2002; PackageVersion: revBB, Aug-2009; PackageReference: SOIC-OA8; PackageDescription: 8-Lead Plastic Small Outline (OA) - Narrow, 3.90mm Body [SOIC]; Supplier 1: Digi-Key; Supplier Part Number 1: TC647VOATR-ND; Mounting Technology: Surface Mount; Code_IPC: SOIC127P600-8; ComponentLink1Description: Manufacturer URL; ComponentLink1URL: http://www.microchip.com/; ComponentLink2Description: Datasheet; ComponentLink2URL: http://ww1.microchip.com/downloads/en/DeviceDoc/21447c.pdf; ComponentLink3Description: Package Specification; ComponentLink3URL: http://www.microchip.com/stellent/groups/techpub_sg/documents/packagingspec/en012702.pdf
footprint SOIC-OA8_N (SOIC, 8-Leads, Body 4.9x3.9mm, Pitch 1.27mm, IPC Medium Density)
footprint SOIC-OA8_L (SOIC, 8-Leads, Body 4.9x3.9mm, Pitch 1.27mm, IPC High Density)
footprint SOIC-OA8_M (SOIC, 8-Leads, Body 4.9x3.9mm, Pitch 1.27mm, IPC Low Density)
pins: 1 VIN (in), 2 CF, 3 VMIN (in), 4 GND (power), 5 SENSE (in), 6 ~{FAULT} (oc), 7 VOUT (out), 8 VDD (power)

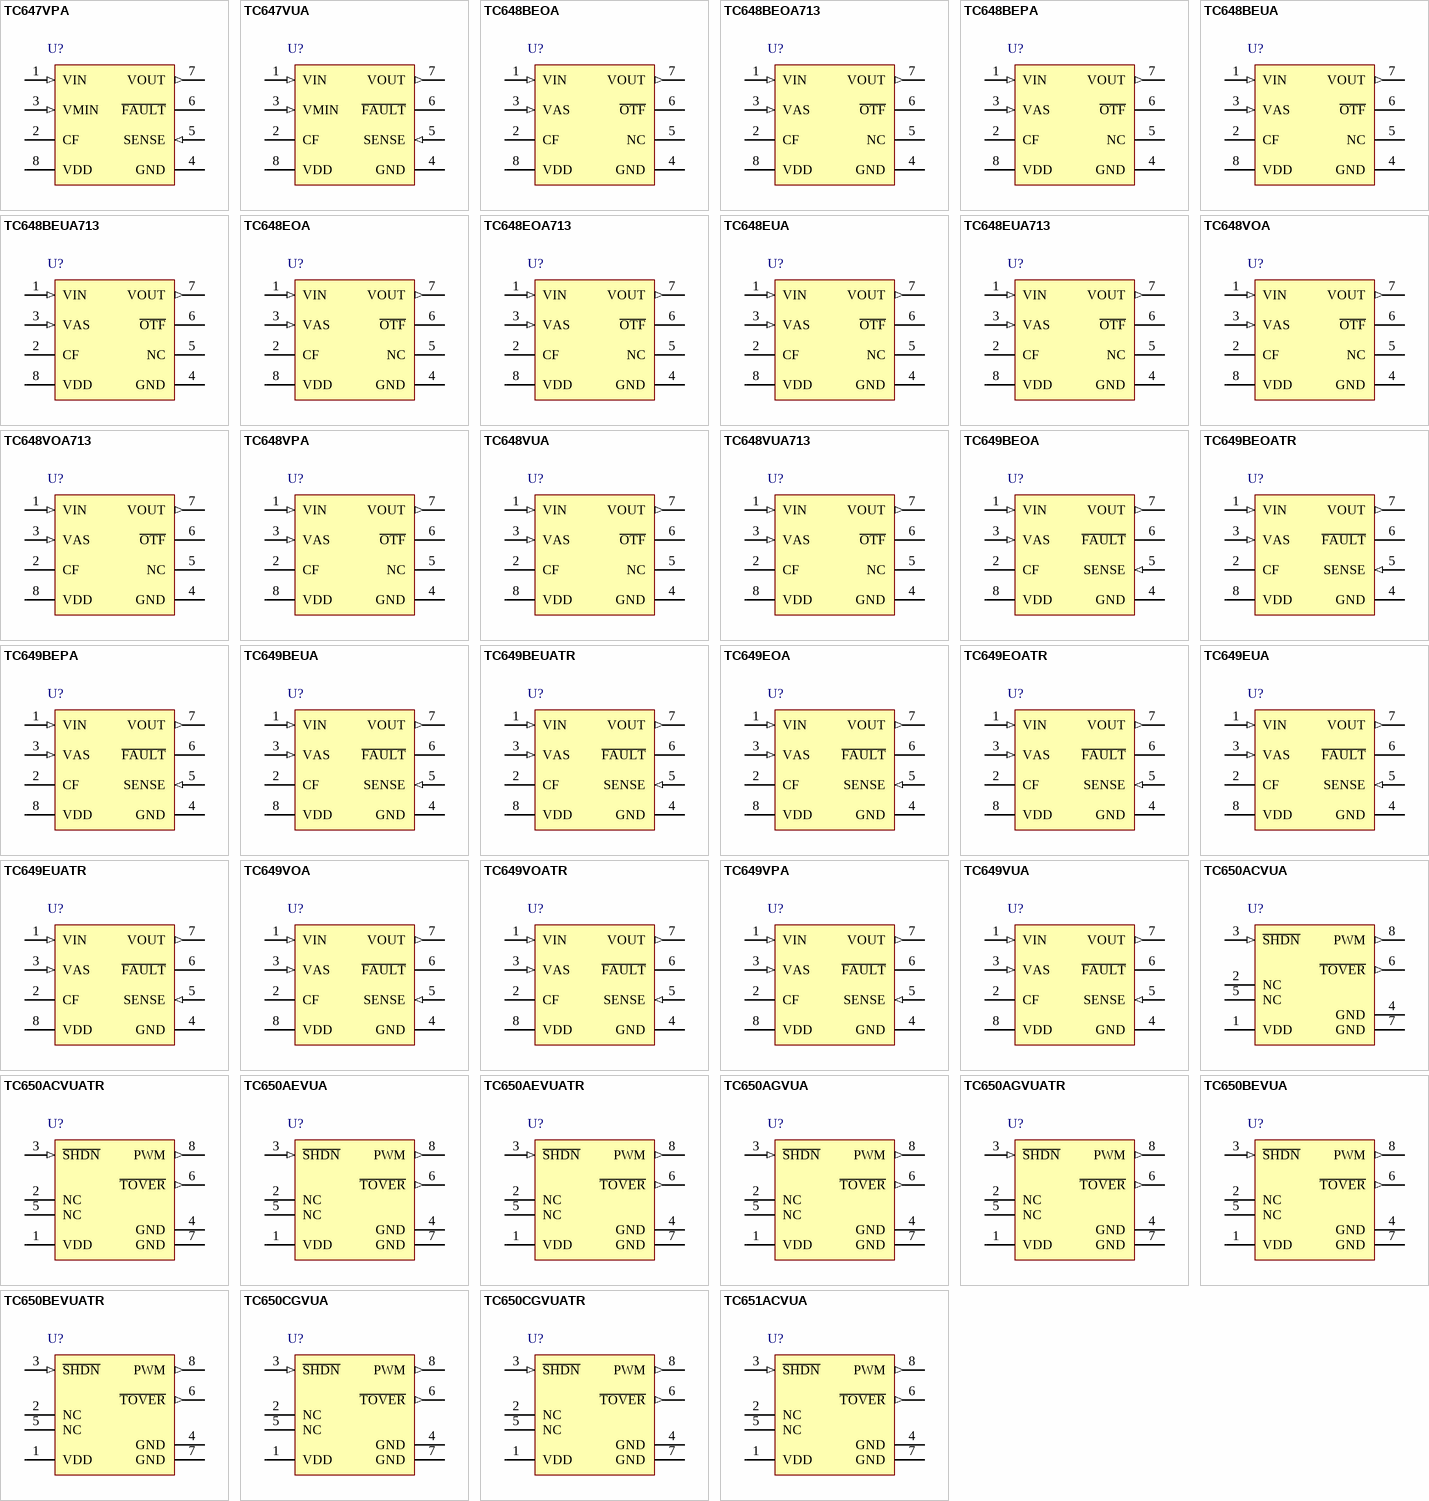
[diagram p6: symbols TC647VPA to TC651ACVUA]

## TC647VPA
designator U?
PWM Fan Speed Controller with FanSense Technology, 8-Pin PDIP; Manufacturer: Microchip; PartNumber: TC647VPA; DatasheetVersion: revC, Oct-2002; PackageVersion: revBB, Aug-2009; PackageReference: PDIP300-PA8; PackageDescription: 8-Lead Plastic Dual In-Line (PA) - 300 mil Body [PDIP]; Supplier 1: Digi-Key; Supplier Part Number 1: TC647VPA-ND; Mounting Technology: Through Hole; Code_JEDEC: MS-001-BA; ComponentLink1Description: Manufacturer URL; ComponentLink1URL: http://www.microchip.com/; ComponentLink2Description: Datasheet; ComponentLink2URL: http://ww1.microchip.com/downloads/en/DeviceDoc/21447c.pdf; ComponentLink3Description: Package Specification; ComponentLink3URL: http://www.microchip.com/stellent/groups/techpub_sg/documents/packagingspec/en012702.pdf
footprint PDIP300-PA8 (DIP, 8-Leads, Row Spacing 7.62mm, Pitch 2.54mm, Body 9.5x6.6mm)
pins: 1 VIN (in), 2 CF, 3 VMIN (in), 4 GND (power), 5 SENSE (in), 6 ~{FAULT} (oc), 7 VOUT (out), 8 VDD (power)

## TC647VUA
designator U?
PWM Fan Speed Controller with FanSense Technology, 8-Pin MSOP; Manufacturer: Microchip; PartNumber: TC647VUA; DatasheetVersion: revC, Oct-2002; PackageVersion: revBB, Aug-2009; PackageReference: MSOP-UA8; PackageDescription: 8-Lead Plastic Micro Small Outline Package (UA) [MSOP]; Supplier 1: Digi-Key; Supplier Part Number 1: TC647VUA-ND; Mounting Technology: Surface Mount; Code_JEDEC: MO-187-AA; ComponentLink1Description: Manufacturer URL; ComponentLink1URL: http://www.microchip.com/; ComponentLink2Description: Datasheet; ComponentLink2URL: http://ww1.microchip.com/downloads/en/DeviceDoc/21447c.pdf; ComponentLink3Description: Package Specification; ComponentLink3URL: http://www.microchip.com/stellent/groups/techpub_sg/documents/packagingspec/en012702.pdf
footprint MSOP-UA8_N (TSOP, 8-Leads, Body 3x3mm, Pitch 0.65mm, IPC Medium Density)
footprint MSOP-UA8_L (TSOP, 8-Leads, Body 3x3mm, Pitch 0.65mm, IPC High Density)
footprint MSOP-UA8_M (TSOP, 8-Leads, Body 3x3mm, Pitch 0.65mm, IPC Low Density)
pins: 1 VIN (in), 2 CF, 3 VMIN (in), 4 GND (power), 5 SENSE (in), 6 ~{FAULT} (oc), 7 VOUT (out), 8 VDD (power)

## TC648BEOA
designator U?
PWM Fan Speed Controller with Auto-Shutdown, Fan Restart and FanSense Technology for Fault Detection, 8-Pin SOIC, Industrial Temperature; Manufacturer: Microchip; PartNumber: TC648BEOA; DatasheetVersion: revB, May-2003; PackageVersion: revBB, Aug-2009; PackageReference: SOIC-OA8; PackageDescription: 8-Lead Plastic Small Outline (OA) - Narrow, 3.90mm Body [SOIC]; Supplier 1: Digi-Key; Supplier Part Number 1: TC648BEOA-ND; Mounting Technology: Surface Mount; Code_IPC: SOIC127P600-8; ComponentLink1Description: Manufacturer URL; ComponentLink1URL: http://www.microchip.com/; ComponentLink2Description: Datasheet; ComponentLink2URL: http://ww1.microchip.com/downloads/en/DeviceDoc/21755b.pdf; ComponentLink3Description: Package Specification; ComponentLink3URL: http://www.microchip.com/stellent/groups/techpub_sg/documents/packagingspec/en012702.pdf
footprint SOIC-OA8_N (SOIC, 8-Leads, Body 4.9x3.9mm, Pitch 1.27mm, IPC Medium Density)
footprint SOIC-OA8_L (SOIC, 8-Leads, Body 4.9x3.9mm, Pitch 1.27mm, IPC High Density)
footprint SOIC-OA8_M (SOIC, 8-Leads, Body 4.9x3.9mm, Pitch 1.27mm, IPC Low Density)
pins: 1 VIN (in), 2 CF, 3 VAS (in), 4 GND (power), 5 NC, 6 ~{OTF} (oc), 7 VOUT (out), 8 VDD (power)

## TC648BEOA713
designator U?
PWM Fan Speed Controller with Auto-Shutdown, Fan Restart and FanSense Technology for Fault Detection, 8-Pin SOIC, Industrial Temperature, Tape and Reel; Manufacturer: Microchip; PartNumber: TC648BEOA713; DatasheetVersion: revB, May-2003; PackageVersion: revBB, Aug-2009; PackageReference: SOIC-OA8; PackageDescription: 8-Lead Plastic Small Outline (OA) - Narrow, 3.90mm Body [SOIC]; Supplier 1: Digi-Key; Supplier Part Number 1: TC648BEOA713-ND; Mounting Technology: Surface Mount; Code_IPC: SOIC127P600-8; ComponentLink1Description: Manufacturer URL; ComponentLink1URL: http://www.microchip.com/; ComponentLink2Description: Datasheet; ComponentLink2URL: http://ww1.microchip.com/downloads/en/DeviceDoc/21755b.pdf; ComponentLink3Description: Package Specification; ComponentLink3URL: http://www.microchip.com/stellent/groups/techpub_sg/documents/packagingspec/en012702.pdf
footprint SOIC-OA8_N (SOIC, 8-Leads, Body 4.9x3.9mm, Pitch 1.27mm, IPC Medium Density)
footprint SOIC-OA8_L (SOIC, 8-Leads, Body 4.9x3.9mm, Pitch 1.27mm, IPC High Density)
footprint SOIC-OA8_M (SOIC, 8-Leads, Body 4.9x3.9mm, Pitch 1.27mm, IPC Low Density)
pins: 1 VIN (in), 2 CF, 3 VAS (in), 4 GND (power), 5 NC, 6 ~{OTF} (oc), 7 VOUT (out), 8 VDD (power)

## TC648BEPA
designator U?
PWM Fan Speed Controller with Auto-Shutdown, Fan Restart and FanSense Technology for Fault Detection, 8-Pin PDIP, Industrial Temperature; Manufacturer: Microchip; PartNumber: TC648BEPA; DatasheetVersion: revB, May-2003; PackageVersion: revBB, Aug-2009; PackageReference: PDIP300-PA8; PackageDescription: 8-Lead Plastic Dual In-Line (PA) - 300 mil Body [PDIP]; Supplier 1: Digi-Key; Supplier Part Number 1: TC648BEPA-ND; Mounting Technology: Through Hole; Code_JEDEC: MS-001-BA; ComponentLink1Description: Manufacturer URL; ComponentLink1URL: http://www.microchip.com/; ComponentLink2Description: Datasheet; ComponentLink2URL: http://ww1.microchip.com/downloads/en/DeviceDoc/21755b.pdf; ComponentLink3Description: Package Specification; ComponentLink3URL: http://www.microchip.com/stellent/groups/techpub_sg/documents/packagingspec/en012702.pdf
footprint PDIP300-PA8 (DIP, 8-Leads, Row Spacing 7.62mm, Pitch 2.54mm, Body 9.5x6.6mm)
pins: 1 VIN (in), 2 CF, 3 VAS (in), 4 GND (power), 5 NC, 6 ~{OTF} (oc), 7 VOUT (out), 8 VDD (power)

## TC648BEUA
designator U?
PWM Fan Speed Controller with Auto-Shutdown, Fan Restart and FanSense Technology for Fault Detection, 8-Pin MSOP, Industrial Temperature; Manufacturer: Microchip; PartNumber: TC648BEUA; DatasheetVersion: revB, May-2003; PackageVersion: revBB, Aug-2009; PackageReference: MSOP-UA8; PackageDescription: 8-Lead Plastic Micro Small Outline Package (UA) [MSOP]; Supplier 1: Digi-Key; Supplier Part Number 1: TC648BEUA-ND; Mounting Technology: Surface Mount; Code_JEDEC: MO-187-AA; ComponentLink1Description: Manufacturer URL; ComponentLink1URL: http://www.microchip.com/; ComponentLink2Description: Datasheet; ComponentLink2URL: http://ww1.microchip.com/downloads/en/DeviceDoc/21755b.pdf; ComponentLink3Description: Package Specification; ComponentLink3URL: http://www.microchip.com/stellent/groups/techpub_sg/documents/packagingspec/en012702.pdf
footprint MSOP-UA8_N (TSOP, 8-Leads, Body 3x3mm, Pitch 0.65mm, IPC Medium Density)
footprint MSOP-UA8_L (TSOP, 8-Leads, Body 3x3mm, Pitch 0.65mm, IPC High Density)
footprint MSOP-UA8_M (TSOP, 8-Leads, Body 3x3mm, Pitch 0.65mm, IPC Low Density)
pins: 1 VIN (in), 2 CF, 3 VAS (in), 4 GND (power), 5 NC, 6 ~{OTF} (oc), 7 VOUT (out), 8 VDD (power)

## TC648BEUA713
designator U?
PWM Fan Speed Controller with Auto-Shutdown, Fan Restart and FanSense Technology for Fault Detection, 8-Pin MSOP, Industrial Temperature, Tape and Reel; Manufacturer: Microchip; PartNumber: TC648BEUA713; DatasheetVersion: revB, May-2003; PackageVersion: revBB, Aug-2009; PackageReference: MSOP-UA8; PackageDescription: 8-Lead Plastic Micro Small Outline Package (UA) [MSOP]; Supplier 1: Digi-Key; Supplier Part Number 1: TC648BEUA713-ND; Mounting Technology: Surface Mount; Code_JEDEC: MO-187-AA; ComponentLink1Description: Manufacturer URL; ComponentLink1URL: http://www.microchip.com/; ComponentLink2Description: Datasheet; ComponentLink2URL: http://ww1.microchip.com/downloads/en/DeviceDoc/21755b.pdf; ComponentLink3Description: Package Specification; ComponentLink3URL: http://www.microchip.com/stellent/groups/techpub_sg/documents/packagingspec/en012702.pdf
footprint MSOP-UA8_N (TSOP, 8-Leads, Body 3x3mm, Pitch 0.65mm, IPC Medium Density)
footprint MSOP-UA8_L (TSOP, 8-Leads, Body 3x3mm, Pitch 0.65mm, IPC High Density)
footprint MSOP-UA8_M (TSOP, 8-Leads, Body 3x3mm, Pitch 0.65mm, IPC Low Density)
pins: 1 VIN (in), 2 CF, 3 VAS (in), 4 GND (power), 5 NC, 6 ~{OTF} (oc), 7 VOUT (out), 8 VDD (power)

## TC648EOA
designator U?
Fan Speed Controller with Auto-Shutdown and Over-Temperature Alert, 8-Pin SOIC, Industrial Temperature; Manufacturer: Microchip; PartNumber: TC648EOA; DatasheetVersion: revC, Oct-2002; PackageVersion: revBB, Aug-2009; PackageReference: SOIC-OA8; PackageDescription: 8-Lead Plastic Small Outline (OA) - Narrow, 3.90mm Body [SOIC]; Supplier 1: Digi-Key; Supplier Part Number 1: TC648EOA-ND; Mounting Technology: Surface Mount; Code_IPC: SOIC127P600-8; ComponentLink1Description: Manufacturer URL; ComponentLink1URL: http://www.microchip.com/; ComponentLink2Description: Datasheet; ComponentLink2URL: http://ww1.microchip.com/downloads/en/DeviceDoc/21448c.pdf; ComponentLink3Description: Package Specification; ComponentLink3URL: http://www.microchip.com/stellent/groups/techpub_sg/documents/packagingspec/en012702.pdf
footprint SOIC-OA8_N (SOIC, 8-Leads, Body 4.9x3.9mm, Pitch 1.27mm, IPC Medium Density)
footprint SOIC-OA8_L (SOIC, 8-Leads, Body 4.9x3.9mm, Pitch 1.27mm, IPC High Density)
footprint SOIC-OA8_M (SOIC, 8-Leads, Body 4.9x3.9mm, Pitch 1.27mm, IPC Low Density)
pins: 1 VIN (in), 2 CF, 3 VAS (in), 4 GND (power), 5 NC, 6 ~{OTF} (oc), 7 VOUT (out), 8 VDD (power)

## TC648EOA713
designator U?
Fan Speed Controller with Auto-Shutdown and Over-Temperature Alert, 8-Pin SOIC, Industrial Temperature, Tape and Reel; Manufacturer: Microchip; PartNumber: TC648EOA713; DatasheetVersion: revC, Oct-2002; PackageVersion: revBB, Aug-2009; PackageReference: SOIC-OA8; PackageDescription: 8-Lead Plastic Small Outline (OA) - Narrow, 3.90mm Body [SOIC]; Supplier 1: Digi-Key; Supplier Part Number 1: TC648EOA713-ND; Mounting Technology: Surface Mount; Code_IPC: SOIC127P600-8; ComponentLink1Description: Manufacturer URL; ComponentLink1URL: http://www.microchip.com/; ComponentLink2Description: Datasheet; ComponentLink2URL: http://ww1.microchip.com/downloads/en/DeviceDoc/21448c.pdf; ComponentLink3Description: Package Specification; ComponentLink3URL: http://www.microchip.com/stellent/groups/techpub_sg/documents/packagingspec/en012702.pdf
footprint SOIC-OA8_N (SOIC, 8-Leads, Body 4.9x3.9mm, Pitch 1.27mm, IPC Medium Density)
footprint SOIC-OA8_L (SOIC, 8-Leads, Body 4.9x3.9mm, Pitch 1.27mm, IPC High Density)
footprint SOIC-OA8_M (SOIC, 8-Leads, Body 4.9x3.9mm, Pitch 1.27mm, IPC Low Density)
pins: 1 VIN (in), 2 CF, 3 VAS (in), 4 GND (power), 5 NC, 6 ~{OTF} (oc), 7 VOUT (out), 8 VDD (power)

## TC648EUA
designator U?
Fan Speed Controller with Auto-Shutdown and Over-Temperature Alert, 8-Pin MSOP, Industrial Temperature; Manufacturer: Microchip; PartNumber: TC648EUA; DatasheetVersion: revC, Oct-2002; PackageVersion: revBB, Aug-2009; PackageReference: MSOP-UA8; PackageDescription: 8-Lead Plastic Micro Small Outline Package (UA) [MSOP]; Supplier 1: Digi-Key; Supplier Part Number 1: TC648EUA-ND; Mounting Technology: Surface Mount; Code_JEDEC: MO-187-AA; ComponentLink1Description: Manufacturer URL; ComponentLink1URL: http://www.microchip.com/; ComponentLink2Description: Datasheet; ComponentLink2URL: http://ww1.microchip.com/downloads/en/DeviceDoc/21448c.pdf; ComponentLink3Description: Package Specification; ComponentLink3URL: http://www.microchip.com/stellent/groups/techpub_sg/documents/packagingspec/en012702.pdf
footprint MSOP-UA8_N (TSOP, 8-Leads, Body 3x3mm, Pitch 0.65mm, IPC Medium Density)
footprint MSOP-UA8_L (TSOP, 8-Leads, Body 3x3mm, Pitch 0.65mm, IPC High Density)
footprint MSOP-UA8_M (TSOP, 8-Leads, Body 3x3mm, Pitch 0.65mm, IPC Low Density)
pins: 1 VIN (in), 2 CF, 3 VAS (in), 4 GND (power), 5 NC, 6 ~{OTF} (oc), 7 VOUT (out), 8 VDD (power)

## TC648EUA713
designator U?
Fan Speed Controller with Auto-Shutdown and Over-Temperature Alert, 8-Pin MSOP, Industrial Temperature, Tape and Reel; Manufacturer: Microchip; PartNumber: TC648EUA713; DatasheetVersion: revC, Oct-2002; PackageVersion: revBB, Aug-2009; PackageReference: MSOP-UA8; PackageDescription: 8-Lead Plastic Micro Small Outline Package (UA) [MSOP]; Supplier 1: Digi-Key; Supplier Part Number 1: TC648EUA713-ND; Mounting Technology: Surface Mount; Code_JEDEC: MO-187-AA; ComponentLink1Description: Manufacturer URL; ComponentLink1URL: http://www.microchip.com/; ComponentLink2Description: Datasheet; ComponentLink2URL: http://ww1.microchip.com/downloads/en/DeviceDoc/21448c.pdf; ComponentLink3Description: Package Specification; ComponentLink3URL: http://www.microchip.com/stellent/groups/techpub_sg/documents/packagingspec/en012702.pdf
footprint MSOP-UA8_N (TSOP, 8-Leads, Body 3x3mm, Pitch 0.65mm, IPC Medium Density)
footprint MSOP-UA8_L (TSOP, 8-Leads, Body 3x3mm, Pitch 0.65mm, IPC High Density)
footprint MSOP-UA8_M (TSOP, 8-Leads, Body 3x3mm, Pitch 0.65mm, IPC Low Density)
pins: 1 VIN (in), 2 CF, 3 VAS (in), 4 GND (power), 5 NC, 6 ~{OTF} (oc), 7 VOUT (out), 8 VDD (power)

## TC648VOA
designator U?
Fan Speed Controller with Auto-Shutdown and Over-Temperature Alert, 8-Pin SOIC; Manufacturer: Microchip; PartNumber: TC648VOA; DatasheetVersion: revC, Oct-2002; PackageVersion: revBB, Aug-2009; PackageReference: SOIC-OA8; PackageDescription: 8-Lead Plastic Small Outline (OA) - Narrow, 3.90mm Body [SOIC]; Supplier 1: Digi-Key; Supplier Part Number 1: TC648VOA-ND; Mounting Technology: Surface Mount; Code_IPC: SOIC127P600-8; ComponentLink1Description: Manufacturer URL; ComponentLink1URL: http://www.microchip.com/; ComponentLink2Description: Datasheet; ComponentLink2URL: http://ww1.microchip.com/downloads/en/DeviceDoc/21448c.pdf; ComponentLink3Description: Package Specification; ComponentLink3URL: http://www.microchip.com/stellent/groups/techpub_sg/documents/packagingspec/en012702.pdf
footprint SOIC-OA8_N (SOIC, 8-Leads, Body 4.9x3.9mm, Pitch 1.27mm, IPC Medium Density)
footprint SOIC-OA8_L (SOIC, 8-Leads, Body 4.9x3.9mm, Pitch 1.27mm, IPC High Density)
footprint SOIC-OA8_M (SOIC, 8-Leads, Body 4.9x3.9mm, Pitch 1.27mm, IPC Low Density)
pins: 1 VIN (in), 2 CF, 3 VAS (in), 4 GND (power), 5 NC, 6 ~{OTF} (oc), 7 VOUT (out), 8 VDD (power)

## TC648VOA713
designator U?
Fan Speed Controller with Auto-Shutdown and Over-Temperature Alert, 8-Pin SOIC, Commercial Temperature, Tape and Reel; Manufacturer: Microchip; PartNumber: TC648VOA713; DatasheetVersion: revC, Oct-2002; PackageVersion: revBB, Aug-2009; PackageReference: SOIC-OA8; PackageDescription: 8-Lead Plastic Small Outline (OA) - Narrow, 3.90mm Body [SOIC]; Supplier 1: Digi-Key; Supplier Part Number 1: TC648VOA713TR-ND; Mounting Technology: Surface Mount; Code_IPC: SOIC127P600-8; ComponentLink1Description: Manufacturer URL; ComponentLink1URL: http://www.microchip.com/; ComponentLink2Description: Datasheet; ComponentLink2URL: http://ww1.microchip.com/downloads/en/DeviceDoc/21448c.pdf; ComponentLink3Description: Package Specification; ComponentLink3URL: http://www.microchip.com/stellent/groups/techpub_sg/documents/packagingspec/en012702.pdf
footprint SOIC-OA8_N (SOIC, 8-Leads, Body 4.9x3.9mm, Pitch 1.27mm, IPC Medium Density)
footprint SOIC-OA8_L (SOIC, 8-Leads, Body 4.9x3.9mm, Pitch 1.27mm, IPC High Density)
footprint SOIC-OA8_M (SOIC, 8-Leads, Body 4.9x3.9mm, Pitch 1.27mm, IPC Low Density)
pins: 1 VIN (in), 2 CF, 3 VAS (in), 4 GND (power), 5 NC, 6 ~{OTF} (oc), 7 VOUT (out), 8 VDD (power)